# EAGLE library part 23LC512T-ISN (library Signetics)
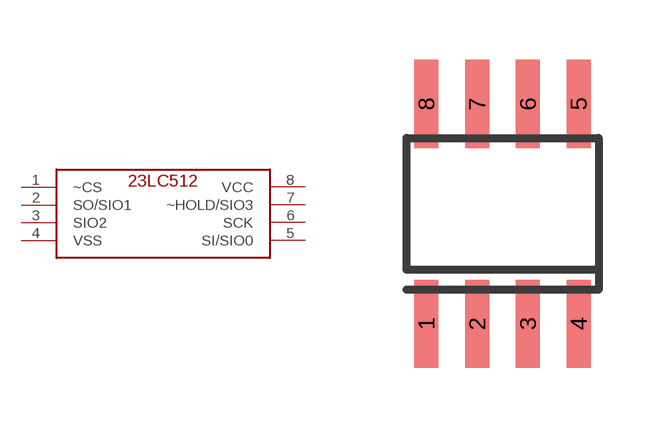
[diagram p14: symbol with the pads of SO08; footprint SO08]

Designator prefix -

## 23LC512T-ISN  [SO08]
1  ~CS
2  SO/SIO1
3  SIO2
4  VSS
5  SI/SIO0
6  SCK
7  ~HOLD/SIO3
8  VCC

## Footprint SO08 (pad centres in mm)
Small Outline Package 8 NS Package M08A
smd 0.6 x 2.2: 1 -1.905,-2.75; 2 -0.635,-2.75; 3 0.635,-2.75; 4 1.905,-2.75; 5 1.905,2.75; 6 0.635,2.75; 7 -0.635,2.75; 8 -1.905,2.75